# Altium schematic symbol library yu0316-NSC_LDO.SchLib: 2590 symbols (part 58 of 64)
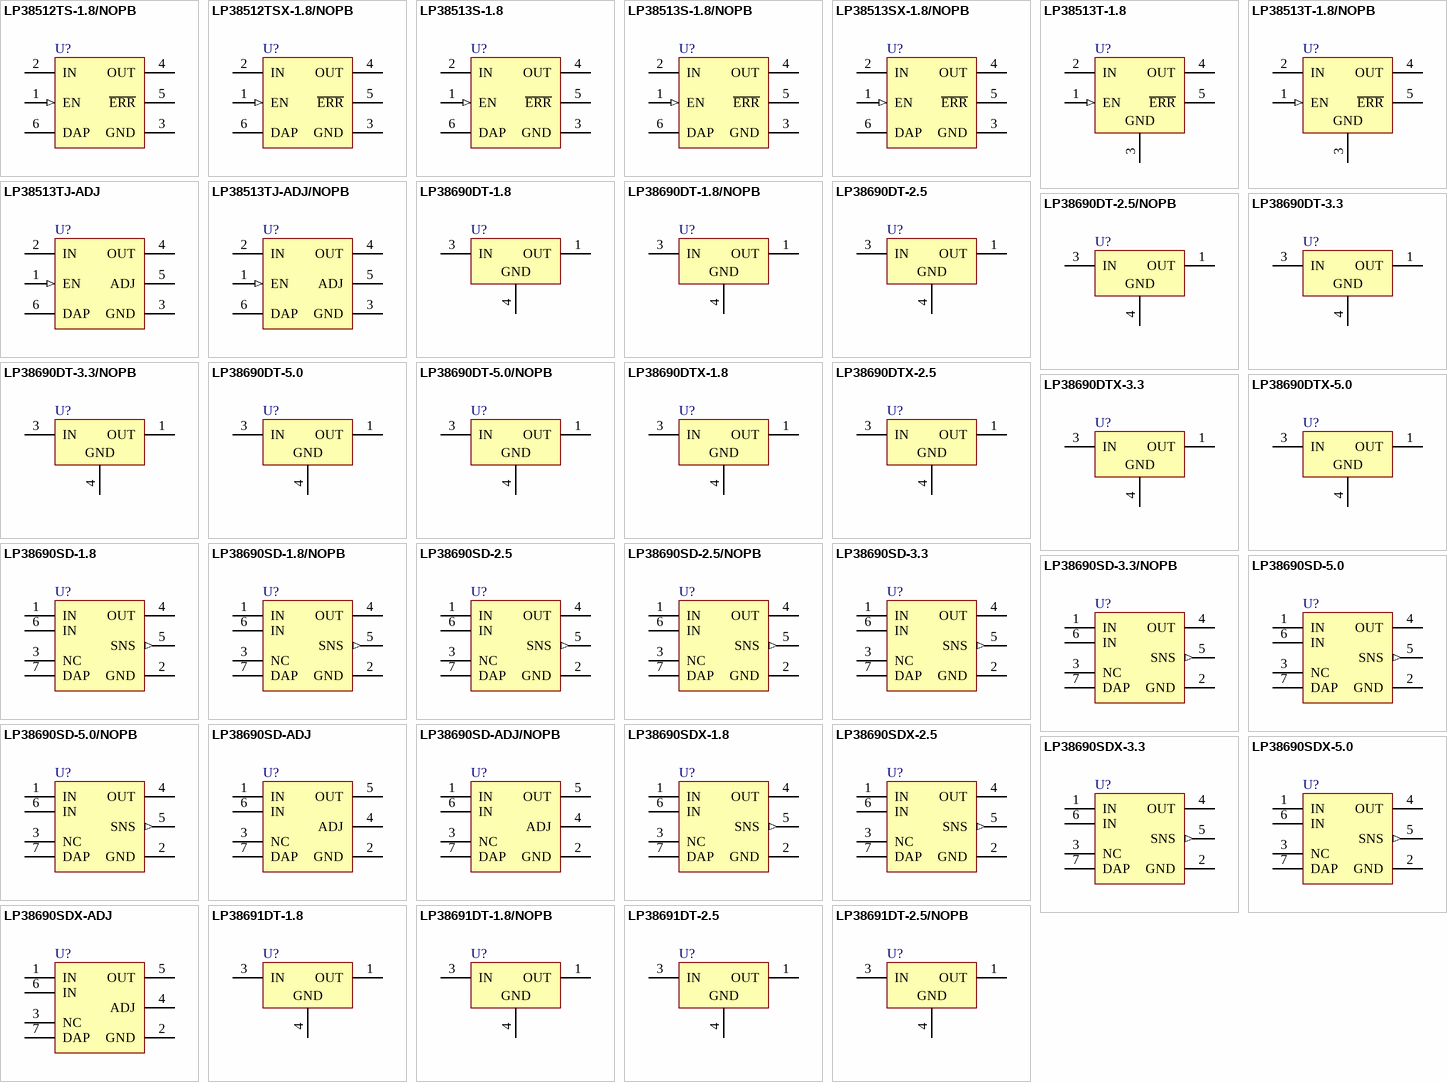
[diagram p122: symbols LP38512TS-1.8/NOPB to LP38691DT-2.5/NOPB]

## LP38513S-1.8
designator U?
3A Fast Response Ultra Low Dropout Linear Regulator, 5-pin TO-263; PartNumber: LP38513S-1.8; Manufacturer: National Semiconductor; PackageTopMarking: NSUZXYTTE#*LP38513S*-1.8; PowerWise: N; CompType: LDO IC; Published: 4-Dec-2008; DatasheetVersion: Jul-2007; PackageVersion: revD, Apr-2005; PackageReference: TS5B; Publisher: Altium Limited; PackageDescription: TO-263, Molded, .400 x .390 x .180in, 5 Lead, .067in Pitch, Surface Mount; Supplier 1: Farnell; Supplier Part Number 1: 1495064; RoHS: Y; PinCount: 5; Code_JEDEC: MO-169-AB; ComponentLink1Description: LP38513 Datasheet; ComponentLink1URL: http://www.national.com/ds/LP/LP38513.pdf; ComponentLink2Description: LP38513 Web Page; ComponentLink2URL: http://www.national.com/pf/LP/LP38513.html; ComponentLink3Description: TS5B Package Page; ComponentLink3URL: http://www.national.com/packaging/folders/ts5b.html
footprint TS5B_N (D2-PAK, 6-Leads, Body 8.6x10.2mm, Pitch 1.7mm, Lead Span 14.1mm, IPC Medium Density)
footprint TS5B_L (D2-PAK, 6-Leads, Body 8.6x10.2mm, Pitch 1.7mm, Lead Span 14.1mm, IPC High Density)
footprint TS5B_M (D2-PAK, 6-Leads, Body 8.6x10.2mm, Pitch 1.7mm, Lead Span 14.1mm, IPC Low Density)
pins: 1 EN (in), 2 IN (power), 3 GND (power), 4 OUT (power), 5 ~{ERR} (oc), 6 DAP (power)

## LP38513S-1.8/NOPB
designator U?
3A Fast Response Ultra Low Dropout Linear Regulator, 5-pin TO-263, Pb-Free; PartNumber: LP38513S-1.8/NOPB; Manufacturer: National Semiconductor; PackageTopMarking: NSUZXYTTE#*LP38513S*-1.8; PowerWise: N; CompType: LDO IC; Published: 1-Mar-2010; DatasheetVersion: Jul-2007; PackageVersion: revD, Apr-2005; PackageReference: TS5B; Publisher: Altium Limited; PackageDescription: TO-263, Molded, .400 x .390 x .180in, 5 Lead, .067in Pitch, Surface Mount; Supplier 1: Digi-Key; Supplier Part Number 1: LP38513S-1.8-ND; RoHS: Y; PinCount: 5; Code_JEDEC: MO-169-AB; ComponentLink1Description: LP38513 Datasheet; ComponentLink1URL: http://www.national.com/ds/LP/LP38513.pdf; ComponentLink2Description: LP38513 Web Page; ComponentLink2URL: http://www.national.com/pf/LP/LP38513.html; ComponentLink3Description: TS5B Package Page; ComponentLink3URL: http://www.national.com/packaging/folders/ts5b.html
footprint TS5B_N (D2-PAK, 6-Leads, Body 8.6x10.2mm, Pitch 1.7mm, Lead Span 14.1mm, IPC Medium Density)
footprint TS5B_L (D2-PAK, 6-Leads, Body 8.6x10.2mm, Pitch 1.7mm, Lead Span 14.1mm, IPC High Density)
footprint TS5B_M (D2-PAK, 6-Leads, Body 8.6x10.2mm, Pitch 1.7mm, Lead Span 14.1mm, IPC Low Density)
pins: 1 EN (in), 2 IN (power), 3 GND (power), 4 OUT (power), 5 ~{ERR} (oc), 6 DAP (power)

## LP38513SX-1.8/NOPB
designator U?
3A Fast Response Ultra Low Dropout Linear Regulator, 5-pin TO-263, Pb-Free; PartNumber: LP38513SX-1.8/NOPB; Manufacturer: National Semiconductor; PackageTopMarking: NSUZXYTTE#*LP38513S*-1.8; PowerWise: N; CompType: LDO IC; Published: 1-Mar-2010; DatasheetVersion: Jul-2007; PackageVersion: revD, Apr-2005; PackageReference: TS5B; Publisher: Altium Limited; PackageDescription: TO-263, Molded, .400 x .390 x .180in, 5 Lead, .067in Pitch, Surface Mount; Supplier 1: Digi-Key; Supplier Part Number 1: LP38513SX-1.8-ND; RoHS: Y; PinCount: 5; Code_JEDEC: MO-169-AB; ComponentLink1Description: LP38513 Datasheet; ComponentLink1URL: http://www.national.com/ds/LP/LP38513.pdf; ComponentLink2Description: LP38513 Web Page; ComponentLink2URL: http://www.national.com/pf/LP/LP38513.html; ComponentLink3Description: TS5B Package Page; ComponentLink3URL: http://www.national.com/packaging/folders/ts5b.html
footprint TS5B_N (D2-PAK, 6-Leads, Body 8.6x10.2mm, Pitch 1.7mm, Lead Span 14.1mm, IPC Medium Density)
footprint TS5B_L (D2-PAK, 6-Leads, Body 8.6x10.2mm, Pitch 1.7mm, Lead Span 14.1mm, IPC High Density)
footprint TS5B_M (D2-PAK, 6-Leads, Body 8.6x10.2mm, Pitch 1.7mm, Lead Span 14.1mm, IPC Low Density)
pins: 1 EN (in), 2 IN (power), 3 GND (power), 4 OUT (power), 5 ~{ERR} (oc), 6 DAP (power)

## LP38513T-1.8
designator U?
3A Fast Response Ultra Low Dropout Linear Regulator, 6-pin TO-220; PartNumber: LP38513T-1.8; Manufacturer: National Semiconductor; PackageTopMarking: NSUZXYTTE#*LP38513T*-1.8; PowerWise: N; CompType: LDO IC; Published: 4-Dec-2008; DatasheetVersion: Jul-2007; PackageVersion: revA, Oct-1989; PackageReference: T05D; Publisher: Altium Limited; PackageDescription: TO-220, Molded, Stagger Bend, 5 Lead; RoHS: Y; PinCount: 5; ComponentLink1Description: LP38513 Datasheet; ComponentLink1URL: http://www.national.com/ds/LP/LP38513.pdf; ComponentLink2Description: LP38513 Web Page; ComponentLink2URL: http://www.national.com/pf/LP/LP38513.html; ComponentLink3Description: T05D Package Page; ComponentLink3URL: http://www.national.com/packaging/folders/t05d.html
footprint T05D (TO, Thru-Hole, Vertical, Heatsink Mounted; 5 Bent Staggered Leads; Body 10.3x8.6x4.6mm, Pitch 1.7 mm)
pins: 1 EN (in), 2 IN (power), 3 GND (power), 4 OUT (power), 5 ~{ERR} (oc)

## LP38513T-1.8/NOPB
designator U?
3A Fast Response Ultra Low Dropout Linear Regulator, 5-pin TO-220, Pb-Free; PartNumber: LP38513T-1.8/NOPB; Manufacturer: National Semiconductor; PackageTopMarking: NSUZXYTTE#*LP38513T*-1.8; PowerWise: N; CompType: LDO IC; Published: 1-Mar-2010; DatasheetVersion: Jul-2007; PackageVersion: revA, Oct-1989; PackageReference: T05D; Publisher: Altium Limited; PackageDescription: TO-220, Molded, Stagger Bend, 5 Lead; Supplier 1: Digi-Key; Supplier Part Number 1: LP38513T-1.8-ND; RoHS: Y; PinCount: 5; ComponentLink1Description: LP38513 Datasheet; ComponentLink1URL: http://www.national.com/ds/LP/LP38513.pdf; ComponentLink2Description: LP38513 Web Page; ComponentLink2URL: http://www.national.com/pf/LP/LP38513.html; ComponentLink3Description: T05D Package Page; ComponentLink3URL: http://www.national.com/packaging/folders/t05d.html
footprint T05D (TO, Thru-Hole, Vertical, Heatsink Mounted; 5 Bent Staggered Leads; Body 10.3x8.6x4.6mm, Pitch 1.7 mm)
pins: 1 EN (in), 2 IN (power), 3 GND (power), 4 OUT (power), 5 ~{ERR} (oc)

## LP38513TJ-ADJ
designator U?
3A Fast Response Ultra Low Dropout Linear Regulator, 6-pin TO-263 Thin; PartNumber: LP38513TJ-ADJ; Manufacturer: National Semiconductor; PackageTopMarking: NSUZXYTTE#*LP38513*TJ-ADJ; PowerWise: N; CompType: LDO IC; Published: 29-May-2009; DatasheetVersion: Feb-2009; PackageVersion: revE, Jan-2008; PackageReference: TJ5A; Publisher: Altium Limited; PackageDescription: Thin TO-263, Molded, 9.85 x 10.16 x 2mm Body, 5 Lead, 1.7mm Pitch, Surface Mount; RoHS: Y; PinCount: 5; ComponentLink1Description: LP38513 Datasheet; ComponentLink1URL: http://www.national.com/ds/LP/LP38513-ADJ.pdf; ComponentLink2Description: LP38513 Web Page; ComponentLink2URL: http://www.national.com/pf/LP/LP38513.html; ComponentLink3Description: TJ5A Package Page; ComponentLink3URL: http://www.national.com/packaging/folders/tj5a.html
footprint TJ5A_N (D2-PAK, 6-Leads, Body 9.9x10.2mm, Pitch 1.7mm, Lead Span 14mm, IPC Medium Density)
footprint TJ5A_L (D2-PAK, 6-Leads, Body 9.9x10.2mm, Pitch 1.7mm, Lead Span 14mm, IPC High Density)
footprint TJ5A_M (D2-PAK, 6-Leads, Body 9.9x10.2mm, Pitch 1.7mm, Lead Span 14mm, IPC Low Density)
pins: 1 EN (in), 2 IN (power), 3 GND (power), 4 OUT (power), 5 ADJ, 6 DAP

## LP38513TJ-ADJ/NOPB
designator U?
3A Fast-Transient Response Adjustable Low-Dropout Linear Voltage Regulator, 5-pin TO-263 Thin, Pb-Free; PartNumber: LP38513TJ-ADJ/NOPB; Manufacturer: National Semiconductor; PackageTopMarking: NSUZXYTTE#*LP38513*TJ-ADJ; PowerWise: N; CompType: LDO IC; Published: 1-Mar-2010; DatasheetVersion: Feb-2009; PackageVersion: revE, Jan-2008; PackageReference: TJ5A; Publisher: Altium Limited; PackageDescription: Thin TO-263, Molded, 9.85 x 10.16 x 2mm Body, 5 Lead, 1.7mm Pitch, Surface Mount; Supplier 1: Digi-Key; Supplier Part Number 1: LP38513TJ-ADJTR-ND; Supplier 2: Digi-Key; Supplier Part Number 2: LP38513TJ-ADJCT-ND; Supplier 3: Digi-Key; Supplier Part Number 3: LP38513TJ-ADJDKR-ND; RoHS: Y; PinCount: 5; ComponentLink1Description: LP38513 Datasheet; ComponentLink1URL: http://www.national.com/ds/LP/LP38513-ADJ.pdf; ComponentLink2Description: LP38513 Web Page; ComponentLink2URL: http://www.national.com/pf/LP/LP38513.html; ComponentLink3Description: TJ5A Package Page; ComponentLink3URL: http://www.national.com/packaging/folders/tj5a.html
footprint TJ5A_N (D2-PAK, 6-Leads, Body 9.9x10.2mm, Pitch 1.7mm, Lead Span 14mm, IPC Medium Density)
footprint TJ5A_L (D2-PAK, 6-Leads, Body 9.9x10.2mm, Pitch 1.7mm, Lead Span 14mm, IPC High Density)
footprint TJ5A_M (D2-PAK, 6-Leads, Body 9.9x10.2mm, Pitch 1.7mm, Lead Span 14mm, IPC Low Density)
pins: 1 EN (in), 2 IN (power), 3 GND (power), 4 OUT (power), 5 ADJ, 6 DAP

## LP38690DT-1.8
designator U?
1A Low Dropout CMOS Linear Regulators, 3-pin TO-252; PartNumber: LP38690DT-1.8; Manufacturer: National Semiconductor; PackageTopMarking: NSUZXYTT*LP38690*DT-1.8; PowerWise: Y; CompType: LDO IC; Published: 4-Dec-2008; DatasheetVersion: May-2005; PackageVersion: revD, Feb-2009; PackageReference: TD03B; Publisher: Altium Limited; PackageDescription: TO252, Molded, Jedec, 6.8 x 6.10 x 2.30mm Body, 3 Lead, 2.28mm Pitch, Surface Mount; Supplier 1: Farnell; Supplier Part Number 1: 1008046; RoHS: N; PinCount: 3; Code_JEDEC: TO-252-AA; ComponentLink1Description: LP38690 Datasheet; ComponentLink1URL: http://www.national.com/ds/LP/LP38690.pdf; ComponentLink2Description: LP38690 Web Page; ComponentLink2URL: http://www.national.com/pf/LP/LP38690.html; ComponentLink3Description: TD03B Package Page; ComponentLink3URL: http://www.national.com/packaging/folders/td03b.html
footprint TD03B_N (D-PAK, 4-Leads, Body 6.1x6.6mm, Pitch 2.29mm, Lead Span 9.7mm, IPC Medium Density)
footprint TD03B_L (D-PAK, 4-Leads, Body 6.1x6.6mm, Pitch 2.29mm, Lead Span 9.7mm, IPC High Density)
footprint TD03B_M (D-PAK, 4-Leads, Body 6.1x6.6mm, Pitch 2.29mm, Lead Span 9.7mm, IPC Low Density)
pins: 1 OUT (power), 3 IN (power), 4 GND (power)

## LP38690DT-1.8/NOPB
designator U?
1A Low Dropout CMOS Linear Regulators Stable with Ceramic Output Capacitors, 3-pin TO-252, Pb-Free; PartNumber: LP38690DT-1.8/NOPB; Manufacturer: National Semiconductor; PackageTopMarking: NSUZXYTT*LP38690*DT-1.8; PowerWise: Y; CompType: LDO IC; Published: 1-Mar-2010; DatasheetVersion: May-2005; PackageVersion: revD, Feb-2009; PackageReference: TD03B; Publisher: Altium Limited; PackageDescription: TO252, Molded, Jedec, 6.8 x 6.10 x 2.30mm Body, 3 Lead, 2.28mm Pitch, Surface Mount; Supplier 1: Digi-Key; Supplier Part Number 1: LP38690DT-1.8-ND; Supplier 2: Farnell; Supplier Part Number 2: 1685708; RoHS: Y; PinCount: 3; Code_JEDEC: TO-252-AA; ComponentLink1Description: LP38690 Datasheet; ComponentLink1URL: http://www.national.com/ds/LP/LP38690.pdf; ComponentLink2Description: LP38690 Web Page; ComponentLink2URL: http://www.national.com/pf/LP/LP38690.html; ComponentLink3Description: TD03B Package Page; ComponentLink3URL: http://www.national.com/packaging/folders/td03b.html
footprint TD03B_N (D-PAK, 4-Leads, Body 6.1x6.6mm, Pitch 2.29mm, Lead Span 9.7mm, IPC Medium Density)
footprint TD03B_L (D-PAK, 4-Leads, Body 6.1x6.6mm, Pitch 2.29mm, Lead Span 9.7mm, IPC High Density)
footprint TD03B_M (D-PAK, 4-Leads, Body 6.1x6.6mm, Pitch 2.29mm, Lead Span 9.7mm, IPC Low Density)
pins: 1 OUT (power), 3 IN (power), 4 GND (power)

## LP38690DT-2.5
designator U?
1A Low Dropout CMOS Linear Regulators, 3-pin TO-252; PartNumber: LP38690DT-2.5; Manufacturer: National Semiconductor; PackageTopMarking: NSUZXYTT*LP38690*DT-2.5; PowerWise: Y; CompType: LDO IC; Published: 4-Dec-2008; DatasheetVersion: May-2005; PackageVersion: revD, Feb-2009; PackageReference: TD03B; Publisher: Altium Limited; PackageDescription: TO252, Molded, Jedec, 6.8 x 6.10 x 2.30mm Body, 3 Lead, 2.28mm Pitch, Surface Mount; Supplier 1: Farnell; Supplier Part Number 1: 1008047; RoHS: N; PinCount: 3; Code_JEDEC: TO-252-AA; ComponentLink1Description: LP38690 Datasheet; ComponentLink1URL: http://www.national.com/ds/LP/LP38690.pdf; ComponentLink2Description: LP38690 Web Page; ComponentLink2URL: http://www.national.com/pf/LP/LP38690.html; ComponentLink3Description: TD03B Package Page; ComponentLink3URL: http://www.national.com/packaging/folders/td03b.html
footprint TD03B_N (D-PAK, 4-Leads, Body 6.1x6.6mm, Pitch 2.29mm, Lead Span 9.7mm, IPC Medium Density)
footprint TD03B_L (D-PAK, 4-Leads, Body 6.1x6.6mm, Pitch 2.29mm, Lead Span 9.7mm, IPC High Density)
footprint TD03B_M (D-PAK, 4-Leads, Body 6.1x6.6mm, Pitch 2.29mm, Lead Span 9.7mm, IPC Low Density)
pins: 1 OUT (power), 3 IN (power), 4 GND (power)

## LP38690DT-2.5/NOPB
designator U?
1A Low Dropout CMOS Linear Regulators Stable with Ceramic Output Capacitors, 3-pin TO-252, Pb-Free; PartNumber: LP38690DT-2.5/NOPB; Manufacturer: National Semiconductor; PackageTopMarking: NSUZXYTT*LP38690*DT-2.5; PowerWise: Y; CompType: LDO IC; Published: 1-Mar-2010; DatasheetVersion: May-2005; PackageVersion: revD, Feb-2009; PackageReference: TD03B; Publisher: Altium Limited; PackageDescription: TO252, Molded, Jedec, 6.8 x 6.10 x 2.30mm Body, 3 Lead, 2.28mm Pitch, Surface Mount; Supplier 1: Digi-Key; Supplier Part Number 1: LP38690DT-2.5-ND; Supplier 2: Farnell; Supplier Part Number 2: 1685709; RoHS: Y; PinCount: 3; Code_JEDEC: TO-252-AA; ComponentLink1Description: LP38690 Datasheet; ComponentLink1URL: http://www.national.com/ds/LP/LP38690.pdf; ComponentLink2Description: LP38690 Web Page; ComponentLink2URL: http://www.national.com/pf/LP/LP38690.html; ComponentLink3Description: TD03B Package Page; ComponentLink3URL: http://www.national.com/packaging/folders/td03b.html
footprint TD03B_N (D-PAK, 4-Leads, Body 6.1x6.6mm, Pitch 2.29mm, Lead Span 9.7mm, IPC Medium Density)
footprint TD03B_L (D-PAK, 4-Leads, Body 6.1x6.6mm, Pitch 2.29mm, Lead Span 9.7mm, IPC High Density)
footprint TD03B_M (D-PAK, 4-Leads, Body 6.1x6.6mm, Pitch 2.29mm, Lead Span 9.7mm, IPC Low Density)
pins: 1 OUT (power), 3 IN (power), 4 GND (power)

## LP38690DT-3.3
designator U?
1A Low Dropout CMOS Linear Regulators, 3-pin TO-252; PartNumber: LP38690DT-3.3; Manufacturer: National Semiconductor; PackageTopMarking: NSUZXYTT*LP38690*DT-3.3; PowerWise: Y; CompType: LDO IC; Published: 4-Dec-2008; DatasheetVersion: May-2005; PackageVersion: revD, Feb-2009; PackageReference: TD03B; Publisher: Altium Limited; PackageDescription: TO252, Molded, Jedec, 6.8 x 6.10 x 2.30mm Body, 3 Lead, 2.28mm Pitch, Surface Mount; Supplier 1: Farnell; Supplier Part Number 1: 1008048; RoHS: N; PinCount: 3; Code_JEDEC: TO-252-AA; ComponentLink1Description: LP38690 Datasheet; ComponentLink1URL: http://www.national.com/ds/LP/LP38690.pdf; ComponentLink2Description: LP38690 Web Page; ComponentLink2URL: http://www.national.com/pf/LP/LP38690.html; ComponentLink3Description: TD03B Package Page; ComponentLink3URL: http://www.national.com/packaging/folders/td03b.html
footprint TD03B_N (D-PAK, 4-Leads, Body 6.1x6.6mm, Pitch 2.29mm, Lead Span 9.7mm, IPC Medium Density)
footprint TD03B_L (D-PAK, 4-Leads, Body 6.1x6.6mm, Pitch 2.29mm, Lead Span 9.7mm, IPC High Density)
footprint TD03B_M (D-PAK, 4-Leads, Body 6.1x6.6mm, Pitch 2.29mm, Lead Span 9.7mm, IPC Low Density)
pins: 1 OUT (power), 3 IN (power), 4 GND (power)

## LP38690DT-3.3/NOPB
designator U?
1A Low Dropout CMOS Linear Regulators Stable with Ceramic Output Capacitors, 3-pin TO-252, Pb-Free; PartNumber: LP38690DT-3.3/NOPB; Manufacturer: National Semiconductor; PackageTopMarking: NSUZXYTT*LP38690*DT-3.3; PowerWise: Y; CompType: LDO IC; Published: 1-Mar-2010; DatasheetVersion: May-2005; PackageVersion: revD, Feb-2009; PackageReference: TD03B; Publisher: Altium Limited; PackageDescription: TO252, Molded, Jedec, 6.8 x 6.10 x 2.30mm Body, 3 Lead, 2.28mm Pitch, Surface Mount; Supplier 1: Digi-Key; Supplier Part Number 1: LP38690DT-3.3-ND; Supplier 2: Farnell; Supplier Part Number 2: 1559626; RoHS: Y; PinCount: 3; Code_JEDEC: TO-252-AA; ComponentLink1Description: LP38690 Datasheet; ComponentLink1URL: http://www.national.com/ds/LP/LP38690.pdf; ComponentLink2Description: LP38690 Web Page; ComponentLink2URL: http://www.national.com/pf/LP/LP38690.html; ComponentLink3Description: TD03B Package Page; ComponentLink3URL: http://www.national.com/packaging/folders/td03b.html
footprint TD03B_N (D-PAK, 4-Leads, Body 6.1x6.6mm, Pitch 2.29mm, Lead Span 9.7mm, IPC Medium Density)
footprint TD03B_L (D-PAK, 4-Leads, Body 6.1x6.6mm, Pitch 2.29mm, Lead Span 9.7mm, IPC High Density)
footprint TD03B_M (D-PAK, 4-Leads, Body 6.1x6.6mm, Pitch 2.29mm, Lead Span 9.7mm, IPC Low Density)
pins: 1 OUT (power), 3 IN (power), 4 GND (power)

## LP38690DT-5.0
designator U?
1A Low Dropout CMOS Linear Regulators, 3-pin TO-252; PartNumber: LP38690DT-5.0; Manufacturer: National Semiconductor; PackageTopMarking: NSUZXYTT*LP38690*DT-5.0; PowerWise: Y; CompType: LDO IC; Published: 4-Dec-2008; DatasheetVersion: May-2005; PackageVersion: revD, Feb-2009; PackageReference: TD03B; Publisher: Altium Limited; PackageDescription: TO252, Molded, Jedec, 6.8 x 6.10 x 2.30mm Body, 3 Lead, 2.28mm Pitch, Surface Mount; Supplier 1: Farnell; Supplier Part Number 1: 1008049; RoHS: N; PinCount: 3; Code_JEDEC: TO-252-AA; ComponentLink1Description: LP38690 Datasheet; ComponentLink1URL: http://www.national.com/ds/LP/LP38690.pdf; ComponentLink2Description: LP38690 Web Page; ComponentLink2URL: http://www.national.com/pf/LP/LP38690.html; ComponentLink3Description: TD03B Package Page; ComponentLink3URL: http://www.national.com/packaging/folders/td03b.html
footprint TD03B_N (D-PAK, 4-Leads, Body 6.1x6.6mm, Pitch 2.29mm, Lead Span 9.7mm, IPC Medium Density)
footprint TD03B_L (D-PAK, 4-Leads, Body 6.1x6.6mm, Pitch 2.29mm, Lead Span 9.7mm, IPC High Density)
footprint TD03B_M (D-PAK, 4-Leads, Body 6.1x6.6mm, Pitch 2.29mm, Lead Span 9.7mm, IPC Low Density)
pins: 1 OUT (power), 3 IN (power), 4 GND (power)

## LP38690DT-5.0/NOPB
designator U?
1A Low Dropout CMOS Linear Regulators Stable with Ceramic Output Capacitors, 3-pin TO-252, Pb-Free; PartNumber: LP38690DT-5.0/NOPB; Manufacturer: National Semiconductor; PackageTopMarking: NSUZXYTT*LP38690*DT-5.0; PowerWise: Y; CompType: LDO IC; Published: 1-Mar-2010; DatasheetVersion: May-2005; PackageVersion: revD, Feb-2009; PackageReference: TD03B; Publisher: Altium Limited; PackageDescription: TO252, Molded, Jedec, 6.8 x 6.10 x 2.30mm Body, 3 Lead, 2.28mm Pitch, Surface Mount; Supplier 1: Digi-Key; Supplier Part Number 1: LP38690DT-5.0-ND; Supplier 2: Farnell; Supplier Part Number 2: 1559627; RoHS: Y; PinCount: 3; Code_JEDEC: TO-252-AA; ComponentLink1Description: LP38690 Datasheet; ComponentLink1URL: http://www.national.com/ds/LP/LP38690.pdf; ComponentLink2Description: LP38690 Web Page; ComponentLink2URL: http://www.national.com/pf/LP/LP38690.html; ComponentLink3Description: TD03B Package Page; ComponentLink3URL: http://www.national.com/packaging/folders/td03b.html
footprint TD03B_N (D-PAK, 4-Leads, Body 6.1x6.6mm, Pitch 2.29mm, Lead Span 9.7mm, IPC Medium Density)
footprint TD03B_L (D-PAK, 4-Leads, Body 6.1x6.6mm, Pitch 2.29mm, Lead Span 9.7mm, IPC High Density)
footprint TD03B_M (D-PAK, 4-Leads, Body 6.1x6.6mm, Pitch 2.29mm, Lead Span 9.7mm, IPC Low Density)
pins: 1 OUT (power), 3 IN (power), 4 GND (power)

## LP38690DTX-1.8
designator U?
1A Low Dropout CMOS Linear Regulators Stable with Ceramic Output Capacitors, 3-pin TO-252; PartNumber: LP38690DTX-1.8; Manufacturer: National Semiconductor; PackageTopMarking: NSUZXYTT*LP38690*DT-1.8; PowerWise: Y; CompType: LDO IC; Published: 1-Mar-2010; DatasheetVersion: May-2005; PackageVersion: revD, Feb-2009; PackageReference: TD03B; Publisher: Altium Limited; PackageDescription: TO252, Molded, Jedec, 6.8 x 6.10 x 2.30mm Body, 3 Lead, 2.28mm Pitch, Surface Mount; RoHS: N; PinCount: 3; Code_JEDEC: TO-252-AA; ComponentLink1Description: LP38690 Datasheet; ComponentLink1URL: http://www.national.com/ds/LP/LP38690.pdf; ComponentLink2Description: LP38690 Web Page; ComponentLink2URL: http://www.national.com/pf/LP/LP38690.html; ComponentLink3Description: TD03B Package Page; ComponentLink3URL: http://www.national.com/packaging/folders/td03b.html
footprint TD03B_N (D-PAK, 4-Leads, Body 6.1x6.6mm, Pitch 2.29mm, Lead Span 9.7mm, IPC Medium Density)
footprint TD03B_L (D-PAK, 4-Leads, Body 6.1x6.6mm, Pitch 2.29mm, Lead Span 9.7mm, IPC High Density)
footprint TD03B_M (D-PAK, 4-Leads, Body 6.1x6.6mm, Pitch 2.29mm, Lead Span 9.7mm, IPC Low Density)
pins: 1 OUT (power), 3 IN (power), 4 GND (power)

## LP38690DTX-2.5
designator U?
1A Low Dropout CMOS Linear Regulators Stable with Ceramic Output Capacitors, 3-pin TO-252; PartNumber: LP38690DTX-2.5; Manufacturer: National Semiconductor; PackageTopMarking: NSUZXYTT*LP38690*DT-2.5; PowerWise: Y; CompType: LDO IC; Published: 1-Mar-2010; DatasheetVersion: May-2005; PackageVersion: revD, Feb-2009; PackageReference: TD03B; Publisher: Altium Limited; PackageDescription: TO252, Molded, Jedec, 6.8 x 6.10 x 2.30mm Body, 3 Lead, 2.28mm Pitch, Surface Mount; RoHS: N; PinCount: 3; Code_JEDEC: TO-252-AA; ComponentLink1Description: LP38690 Datasheet; ComponentLink1URL: http://www.national.com/ds/LP/LP38690.pdf; ComponentLink2Description: LP38690 Web Page; ComponentLink2URL: http://www.national.com/pf/LP/LP38690.html; ComponentLink3Description: TD03B Package Page; ComponentLink3URL: http://www.national.com/packaging/folders/td03b.html
footprint TD03B_N (D-PAK, 4-Leads, Body 6.1x6.6mm, Pitch 2.29mm, Lead Span 9.7mm, IPC Medium Density)
footprint TD03B_L (D-PAK, 4-Leads, Body 6.1x6.6mm, Pitch 2.29mm, Lead Span 9.7mm, IPC High Density)
footprint TD03B_M (D-PAK, 4-Leads, Body 6.1x6.6mm, Pitch 2.29mm, Lead Span 9.7mm, IPC Low Density)
pins: 1 OUT (power), 3 IN (power), 4 GND (power)

## LP38690DTX-3.3
designator U?
1A Low Dropout CMOS Linear Regulators Stable with Ceramic Output Capacitors, 3-pin TO-252; PartNumber: LP38690DTX-3.3; Manufacturer: National Semiconductor; PackageTopMarking: NSUZXYTT*LP38690*DT-3.3; PowerWise: Y; CompType: LDO IC; Published: 1-Mar-2010; DatasheetVersion: May-2005; PackageVersion: revD, Feb-2009; PackageReference: TD03B; Publisher: Altium Limited; PackageDescription: TO252, Molded, Jedec, 6.8 x 6.10 x 2.30mm Body, 3 Lead, 2.28mm Pitch, Surface Mount; RoHS: N; PinCount: 3; Code_JEDEC: TO-252-AA; ComponentLink1Description: LP38690 Datasheet; ComponentLink1URL: http://www.national.com/ds/LP/LP38690.pdf; ComponentLink2Description: LP38690 Web Page; ComponentLink2URL: http://www.national.com/pf/LP/LP38690.html; ComponentLink3Description: TD03B Package Page; ComponentLink3URL: http://www.national.com/packaging/folders/td03b.html
footprint TD03B_N (D-PAK, 4-Leads, Body 6.1x6.6mm, Pitch 2.29mm, Lead Span 9.7mm, IPC Medium Density)
footprint TD03B_L (D-PAK, 4-Leads, Body 6.1x6.6mm, Pitch 2.29mm, Lead Span 9.7mm, IPC High Density)
footprint TD03B_M (D-PAK, 4-Leads, Body 6.1x6.6mm, Pitch 2.29mm, Lead Span 9.7mm, IPC Low Density)
pins: 1 OUT (power), 3 IN (power), 4 GND (power)

## LP38690DTX-5.0
designator U?
1A Low Dropout CMOS Linear Regulators Stable with Ceramic Output Capacitors, 3-pin TO-252; PartNumber: LP38690DTX-5.0; Manufacturer: National Semiconductor; PackageTopMarking: NSUZXYTT*LP38690*DT-5.0; PowerWise: Y; CompType: LDO IC; Published: 1-Mar-2010; DatasheetVersion: May-2005; PackageVersion: revD, Feb-2009; PackageReference: TD03B; Publisher: Altium Limited; PackageDescription: TO252, Molded, Jedec, 6.8 x 6.10 x 2.30mm Body, 3 Lead, 2.28mm Pitch, Surface Mount; RoHS: N; PinCount: 3; Code_JEDEC: TO-252-AA; ComponentLink1Description: LP38690 Datasheet; ComponentLink1URL: http://www.national.com/ds/LP/LP38690.pdf; ComponentLink2Description: LP38690 Web Page; ComponentLink2URL: http://www.national.com/pf/LP/LP38690.html; ComponentLink3Description: TD03B Package Page; ComponentLink3URL: http://www.national.com/packaging/folders/td03b.html
footprint TD03B_N (D-PAK, 4-Leads, Body 6.1x6.6mm, Pitch 2.29mm, Lead Span 9.7mm, IPC Medium Density)
footprint TD03B_L (D-PAK, 4-Leads, Body 6.1x6.6mm, Pitch 2.29mm, Lead Span 9.7mm, IPC High Density)
footprint TD03B_M (D-PAK, 4-Leads, Body 6.1x6.6mm, Pitch 2.29mm, Lead Span 9.7mm, IPC Low Density)
pins: 1 OUT (power), 3 IN (power), 4 GND (power)

## LP38690SD-1.8
designator U?
1A Low Dropout CMOS Linear Regulators, 6-pin LLP; PartNumber: LP38690SD-1.8; Manufacturer: National Semiconductor; PackageTopMarking: ZXYTT*L113B; PowerWise: Y; CompType: LDO IC; Published: 4-Dec-2008; DatasheetVersion: May-2005; PackageVersion: revA, Jul-2003; PackageReference: SDE06A; Publisher: Altium Limited; PackageDescription: LLP, Plastic, Dual, 3 x 3 x 0.8mm Body, 6 Lead, 0.95mm Pitch, No Pullback; RoHS: N; PinCount: 6; ComponentLink1Description: LP38690 Datasheet; ComponentLink1URL: http://www.national.com/ds/LP/LP38690.pdf; ComponentLink2Description: LP38690 Web Page; ComponentLink2URL: http://www.national.com/pf/LP/LP38690.html; ComponentLink3Description: SDE06A Package Page; ComponentLink3URL: http://www.national.com/packaging/folders/sde06a.html
footprint SDE06A_full (SON, 6-Leads, Body 3x3 mm, Pitch 0.95mm, Full Paste, NSC Recommended)
footprint SDE06A_quad (SON, 6-Leads, Body 3x3 mm, Pitch 0.95mm, Quad Paste, NSC Recommended)
pins: 1 IN (power), 2 GND (power), 3 NC, 4 OUT (power), 5 SNS (out), 6 IN (power), 7 DAP (power)

## LP38690SD-1.8/NOPB
designator U?
1A Low Dropout CMOS Linear Regulators Stable with Ceramic Output Capacitors, 6-pin LLP, Pb-Free; PartNumber: LP38690SD-1.8/NOPB; Manufacturer: National Semiconductor; PackageTopMarking: ZXYTT*L113B; PowerWise: Y; CompType: LDO IC; Published: 1-Mar-2010; DatasheetVersion: May-2005; PackageVersion: revA, Jul-2003; PackageReference: SDE06A; Publisher: Altium Limited; PackageDescription: LLP, Plastic, Dual, 3 x 3 x 0.8mm Body, 6 Lead, 0.95mm Pitch, No Pullback; Supplier 1: Digi-Key; Supplier Part Number 1: LP38690SD-1.8TR-ND; Supplier 2: Digi-Key; Supplier Part Number 2: LP38690SD-1.8CT-ND; Supplier 3: Digi-Key; Supplier Part Number 3: LP38690SD-1.8DKR-ND; RoHS: Y; PinCount: 6; ComponentLink1Description: LP38690 Datasheet; ComponentLink1URL: http://www.national.com/ds/LP/LP38690.pdf; ComponentLink2Description: LP38690 Web Page; ComponentLink2URL: http://www.national.com/pf/LP/LP38690.html; ComponentLink3Description: SDE06A Package Page; ComponentLink3URL: http://www.national.com/packaging/folders/sde06a.html
footprint SDE06A_full (SON, 6-Leads, Body 3x3 mm, Pitch 0.95mm, Full Paste, NSC Recommended)
footprint SDE06A_quad (SON, 6-Leads, Body 3x3 mm, Pitch 0.95mm, Quad Paste, NSC Recommended)
pins: 1 IN (power), 2 GND (power), 3 NC, 4 OUT (power), 5 SNS (out), 6 IN (power), 7 DAP (power)

## LP38690SD-2.5
designator U?
1A Low Dropout CMOS Linear Regulators, 6-pin LLP; PartNumber: LP38690SD-2.5; Manufacturer: National Semiconductor; PackageTopMarking: ZXYTT*L114B; PowerWise: Y; CompType: LDO IC; Published: 4-Dec-2008; DatasheetVersion: May-2005; PackageVersion: revA, Jul-2003; PackageReference: SDE06A; Publisher: Altium Limited; PackageDescription: LLP, Plastic, Dual, 3 x 3 x 0.8mm Body, 6 Lead, 0.95mm Pitch, No Pullback; Supplier 1: Digi-Key; Supplier Part Number 1: LP38690SD-2.5TR-ND; Supplier 2: Digi-Key; Supplier Part Number 2: LP38690SD-2.5CT-ND; Supplier 3: Digi-Key; Supplier Part Number 3: LP38690SD-2.5DKR-ND; RoHS: N; PinCount: 6; ComponentLink1Description: LP38690 Datasheet; ComponentLink1URL: http://www.national.com/ds/LP/LP38690.pdf; ComponentLink2Description: LP38690 Web Page; ComponentLink2URL: http://www.national.com/pf/LP/LP38690.html; ComponentLink3Description: SDE06A Package Page; ComponentLink3URL: http://www.national.com/packaging/folders/sde06a.html
footprint SDE06A_full (SON, 6-Leads, Body 3x3 mm, Pitch 0.95mm, Full Paste, NSC Recommended)
footprint SDE06A_quad (SON, 6-Leads, Body 3x3 mm, Pitch 0.95mm, Quad Paste, NSC Recommended)
pins: 1 IN (power), 2 GND (power), 3 NC, 4 OUT (power), 5 SNS (out), 6 IN (power), 7 DAP (power)

## LP38690SD-2.5/NOPB
designator U?
1A Low Dropout CMOS Linear Regulators Stable with Ceramic Output Capacitors, 6-pin LLP, Pb-Free; PartNumber: LP38690SD-2.5/NOPB; Manufacturer: National Semiconductor; PackageTopMarking: ZXYTT*L114B; PowerWise: Y; CompType: LDO IC; Published: 1-Mar-2010; DatasheetVersion: May-2005; PackageVersion: revA, Jul-2003; PackageReference: SDE06A; Publisher: Altium Limited; PackageDescription: LLP, Plastic, Dual, 3 x 3 x 0.8mm Body, 6 Lead, 0.95mm Pitch, No Pullback; Supplier 1: Farnell; Supplier Part Number 1: 1685710; RoHS: Y; PinCount: 6; ComponentLink1Description: LP38690 Datasheet; ComponentLink1URL: http://www.national.com/ds/LP/LP38690.pdf; ComponentLink2Description: LP38690 Web Page; ComponentLink2URL: http://www.national.com/pf/LP/LP38690.html; ComponentLink3Description: SDE06A Package Page; ComponentLink3URL: http://www.national.com/packaging/folders/sde06a.html
footprint SDE06A_full (SON, 6-Leads, Body 3x3 mm, Pitch 0.95mm, Full Paste, NSC Recommended)
footprint SDE06A_quad (SON, 6-Leads, Body 3x3 mm, Pitch 0.95mm, Quad Paste, NSC Recommended)
pins: 1 IN (power), 2 GND (power), 3 NC, 4 OUT (power), 5 SNS (out), 6 IN (power), 7 DAP (power)

## LP38690SD-3.3
designator U?
1A Low Dropout CMOS Linear Regulators, 6-pin LLP; PartNumber: LP38690SD-3.3; Manufacturer: National Semiconductor; PackageTopMarking: ZXYTT*L115B; PowerWise: Y; CompType: LDO IC; Published: 4-Dec-2008; DatasheetVersion: May-2005; PackageVersion: revA, Jul-2003; PackageReference: SDE06A; Publisher: Altium Limited; PackageDescription: LLP, Plastic, Dual, 3 x 3 x 0.8mm Body, 6 Lead, 0.95mm Pitch, No Pullback; RoHS: N; PinCount: 6; ComponentLink1Description: LP38690 Datasheet; ComponentLink1URL: http://www.national.com/ds/LP/LP38690.pdf; ComponentLink2Description: LP38690 Web Page; ComponentLink2URL: http://www.national.com/pf/LP/LP38690.html; ComponentLink3Description: SDE06A Package Page; ComponentLink3URL: http://www.national.com/packaging/folders/sde06a.html
footprint SDE06A_full (SON, 6-Leads, Body 3x3 mm, Pitch 0.95mm, Full Paste, NSC Recommended)
footprint SDE06A_quad (SON, 6-Leads, Body 3x3 mm, Pitch 0.95mm, Quad Paste, NSC Recommended)
pins: 1 IN (power), 2 GND (power), 3 NC, 4 OUT (power), 5 SNS (out), 6 IN (power), 7 DAP (power)

## LP38690SD-3.3/NOPB
designator U?
1A Low Dropout CMOS Linear Regulators Stable with Ceramic Output Capacitors, 6-pin LLP, Pb-Free; PartNumber: LP38690SD-3.3/NOPB; Manufacturer: National Semiconductor; PackageTopMarking: ZXYTT*L115B; PowerWise: Y; CompType: LDO IC; Published: 1-Mar-2010; DatasheetVersion: May-2005; PackageVersion: revA, Jul-2003; PackageReference: SDE06A; Publisher: Altium Limited; PackageDescription: LLP, Plastic, Dual, 3 x 3 x 0.8mm Body, 6 Lead, 0.95mm Pitch, No Pullback; Supplier 1: Digi-Key; Supplier Part Number 1: LP38690SD-3.3TR-ND; Supplier 2: Digi-Key; Supplier Part Number 2: LP38690SD-3.3CT-ND; Supplier 3: Digi-Key; Supplier Part Number 3: LP38690SD-3.3DKR-ND; Supplier 4: Farnell; Supplier Part Number 4: 1685711; RoHS: Y; PinCount: 6; ComponentLink1Description: LP38690 Datasheet; ComponentLink1URL: http://www.national.com/ds/LP/LP38690.pdf; ComponentLink2Description: LP38690 Web Page; ComponentLink2URL: http://www.national.com/pf/LP/LP38690.html; ComponentLink3Description: SDE06A Package Page; ComponentLink3URL: http://www.national.com/packaging/folders/sde06a.html
footprint SDE06A_full (SON, 6-Leads, Body 3x3 mm, Pitch 0.95mm, Full Paste, NSC Recommended)
footprint SDE06A_quad (SON, 6-Leads, Body 3x3 mm, Pitch 0.95mm, Quad Paste, NSC Recommended)
pins: 1 IN (power), 2 GND (power), 3 NC, 4 OUT (power), 5 SNS (out), 6 IN (power), 7 DAP (power)

## LP38690SD-5.0
designator U?
1A Low Dropout CMOS Linear Regulators, 6-pin LLP; PartNumber: LP38690SD-5.0; Manufacturer: National Semiconductor; PackageTopMarking: ZXYTT*L116B; PowerWise: Y; CompType: LDO IC; Published: 4-Dec-2008; DatasheetVersion: May-2005; PackageVersion: revA, Jul-2003; PackageReference: SDE06A; Publisher: Altium Limited; PackageDescription: LLP, Plastic, Dual, 3 x 3 x 0.8mm Body, 6 Lead, 0.95mm Pitch, No Pullback; RoHS: N; PinCount: 6; ComponentLink1Description: LP38690 Datasheet; ComponentLink1URL: http://www.national.com/ds/LP/LP38690.pdf; ComponentLink2Description: LP38690 Web Page; ComponentLink2URL: http://www.national.com/pf/LP/LP38690.html; ComponentLink3Description: SDE06A Package Page; ComponentLink3URL: http://www.national.com/packaging/folders/sde06a.html
footprint SDE06A_full (SON, 6-Leads, Body 3x3 mm, Pitch 0.95mm, Full Paste, NSC Recommended)
footprint SDE06A_quad (SON, 6-Leads, Body 3x3 mm, Pitch 0.95mm, Quad Paste, NSC Recommended)
pins: 1 IN (power), 2 GND (power), 3 NC, 4 OUT (power), 5 SNS (out), 6 IN (power), 7 DAP (power)

## LP38690SD-5.0/NOPB
designator U?
1A Low Dropout CMOS Linear Regulators Stable with Ceramic Output Capacitors, 6-pin LLP, Pb-Free; PartNumber: LP38690SD-5.0/NOPB; Manufacturer: National Semiconductor; PackageTopMarking: ZXYTT*L116B; PowerWise: Y; CompType: LDO IC; Published: 1-Mar-2010; DatasheetVersion: May-2005; PackageVersion: revA, Jul-2003; PackageReference: SDE06A; Publisher: Altium Limited; PackageDescription: LLP, Plastic, Dual, 3 x 3 x 0.8mm Body, 6 Lead, 0.95mm Pitch, No Pullback; Supplier 1: Digi-Key; Supplier Part Number 1: LP38690SD-5.0TR-ND; Supplier 2: Digi-Key; Supplier Part Number 2: LP38690SD-5.0CT-ND; Supplier 3: Digi-Key; Supplier Part Number 3: LP38690SD-5.0DKR-ND; Supplier 4: Farnell; Supplier Part Number 4: 1685712; RoHS: Y; PinCount: 6; ComponentLink1Description: LP38690 Datasheet; ComponentLink1URL: http://www.national.com/ds/LP/LP38690.pdf; ComponentLink2Description: LP38690 Web Page; ComponentLink2URL: http://www.national.com/pf/LP/LP38690.html; ComponentLink3Description: SDE06A Package Page; ComponentLink3URL: http://www.national.com/packaging/folders/sde06a.html
footprint SDE06A_full (SON, 6-Leads, Body 3x3 mm, Pitch 0.95mm, Full Paste, NSC Recommended)
footprint SDE06A_quad (SON, 6-Leads, Body 3x3 mm, Pitch 0.95mm, Quad Paste, NSC Recommended)
pins: 1 IN (power), 2 GND (power), 3 NC, 4 OUT (power), 5 SNS (out), 6 IN (power), 7 DAP (power)

## LP38690SD-ADJ
designator U?
1A Low Dropout CMOS Linear Regulators, 6-pin LLP; PartNumber: LP38690SD-ADJ; Manufacturer: National Semiconductor; PackageTopMarking: ZXYTT*L112B; PowerWise: Y; CompType: LDO IC; Published: 4-Dec-2008; DatasheetVersion: Jan-2005; PackageVersion: revA, Jul-2003; PackageReference: SDE06A; Publisher: Altium Limited; PackageDescription: LLP, Plastic, Dual, 3 x 3 x 0.8mm Body, 6 Lead, 0.95mm Pitch, No Pullback; Supplier 1: Farnell; Supplier Part Number 1: 1312619; RoHS: N; PinCount: 6; ComponentLink1Description: LP38690 Datasheet; ComponentLink1URL: http://www.national.com/ds/LP/LP38690-ADJ.pdf; ComponentLink2Description: LP38690 Web Page; ComponentLink2URL: http://www.national.com/pf/LP/LP38690.html; ComponentLink3Description: SDE06A Package Page; ComponentLink3URL: http://www.national.com/packaging/folders/sde06a.html
footprint SDE06A_full (SON, 6-Leads, Body 3x3 mm, Pitch 0.95mm, Full Paste, NSC Recommended)
footprint SDE06A_quad (SON, 6-Leads, Body 3x3 mm, Pitch 0.95mm, Quad Paste, NSC Recommended)
pins: 1 IN (power), 2 GND (power), 3 NC, 4 ADJ, 5 OUT (power), 6 IN (power), 7 DAP (power)

## LP38690SD-ADJ/NOPB
designator U?
1A Low Dropout CMOS Linear Regulators with Adjustable Output Stable with Ceramic Output Capacitors, 6-pin LLP, Pb-Free; PartNumber: LP38690SD-ADJ/NOPB; Manufacturer: National Semiconductor; PackageTopMarking: ZXYTT*L112B; PowerWise: Y; CompType: LDO IC; Published: 1-Mar-2010; DatasheetVersion: Jan-2005; PackageVersion: revA, Jul-2003; PackageReference: SDE06A; Publisher: Altium Limited; PackageDescription: LLP, Plastic, Dual, 3 x 3 x 0.8mm Body, 6 Lead, 0.95mm Pitch, No Pullback; Supplier 1: Digi-Key; Supplier Part Number 1: LP38690SD-ADJTR-ND; Supplier 2: Digi-Key; Supplier Part Number 2: LP38690SD-ADJCT-ND; Supplier 3: Digi-Key; Supplier Part Number 3: LP38690SD-ADJDKR-ND; Supplier 4: Farnell; Supplier Part Number 4: 1559628; RoHS: Y; PinCount: 6; ComponentLink1Description: LP38690 Datasheet; ComponentLink1URL: http://www.national.com/ds/LP/LP38690-ADJ.pdf; ComponentLink2Description: LP38690 Web Page; ComponentLink2URL: http://www.national.com/pf/LP/LP38690.html; ComponentLink3Description: SDE06A Package Page; ComponentLink3URL: http://www.national.com/packaging/folders/sde06a.html
footprint SDE06A_full (SON, 6-Leads, Body 3x3 mm, Pitch 0.95mm, Full Paste, NSC Recommended)
footprint SDE06A_quad (SON, 6-Leads, Body 3x3 mm, Pitch 0.95mm, Quad Paste, NSC Recommended)
pins: 1 IN (power), 2 GND (power), 3 NC, 4 ADJ, 5 OUT (power), 6 IN (power), 7 DAP (power)

## LP38690SDX-1.8
designator U?
1A Low Dropout CMOS Linear Regulators Stable with Ceramic Output Capacitors, 6-pin LLP; PartNumber: LP38690SDX-1.8; Manufacturer: National Semiconductor; PackageTopMarking: ZXYTT*L113B; PowerWise: Y; CompType: LDO IC; Published: 1-Mar-2010; DatasheetVersion: May-2005; PackageVersion: revA, Jul-2003; PackageReference: SDE06A; Publisher: Altium Limited; PackageDescription: LLP, Plastic, Dual, 3 x 3 x 0.8mm Body, 6 Lead, 0.95mm Pitch, No Pullback; RoHS: N; PinCount: 6; ComponentLink1Description: LP38690 Datasheet; ComponentLink1URL: http://www.national.com/ds/LP/LP38690.pdf; ComponentLink2Description: LP38690 Web Page; ComponentLink2URL: http://www.national.com/pf/LP/LP38690.html; ComponentLink3Description: SDE06A Package Page; ComponentLink3URL: http://www.national.com/packaging/folders/sde06a.html
footprint SDE06A_full (SON, 6-Leads, Body 3x3 mm, Pitch 0.95mm, Full Paste, NSC Recommended)
footprint SDE06A_quad (SON, 6-Leads, Body 3x3 mm, Pitch 0.95mm, Quad Paste, NSC Recommended)
pins: 1 IN (power), 2 GND (power), 3 NC, 4 OUT (power), 5 SNS (out), 6 IN (power), 7 DAP (power)

## LP38690SDX-2.5
designator U?
1A Low Dropout CMOS Linear Regulators Stable with Ceramic Output Capacitors, 6-pin LLP; PartNumber: LP38690SDX-2.5; Manufacturer: National Semiconductor; PackageTopMarking: ZXYTT*L114B; PowerWise: Y; CompType: LDO IC; Published: 1-Mar-2010; DatasheetVersion: May-2005; PackageVersion: revA, Jul-2003; PackageReference: SDE06A; Publisher: Altium Limited; PackageDescription: LLP, Plastic, Dual, 3 x 3 x 0.8mm Body, 6 Lead, 0.95mm Pitch, No Pullback; RoHS: N; PinCount: 6; ComponentLink1Description: LP38690 Datasheet; ComponentLink1URL: http://www.national.com/ds/LP/LP38690.pdf; ComponentLink2Description: LP38690 Web Page; ComponentLink2URL: http://www.national.com/pf/LP/LP38690.html; ComponentLink3Description: SDE06A Package Page; ComponentLink3URL: http://www.national.com/packaging/folders/sde06a.html
footprint SDE06A_full (SON, 6-Leads, Body 3x3 mm, Pitch 0.95mm, Full Paste, NSC Recommended)
footprint SDE06A_quad (SON, 6-Leads, Body 3x3 mm, Pitch 0.95mm, Quad Paste, NSC Recommended)
pins: 1 IN (power), 2 GND (power), 3 NC, 4 OUT (power), 5 SNS (out), 6 IN (power), 7 DAP (power)

## LP38690SDX-3.3
designator U?
1A Low Dropout CMOS Linear Regulators Stable with Ceramic Output Capacitors, 6-pin LLP; PartNumber: LP38690SDX-3.3; Manufacturer: National Semiconductor; PackageTopMarking: ZXYTT*L115B; PowerWise: Y; CompType: LDO IC; Published: 1-Mar-2010; DatasheetVersion: May-2005; PackageVersion: revA, Jul-2003; PackageReference: SDE06A; Publisher: Altium Limited; PackageDescription: LLP, Plastic, Dual, 3 x 3 x 0.8mm Body, 6 Lead, 0.95mm Pitch, No Pullback; RoHS: N; PinCount: 6; ComponentLink1Description: LP38690 Datasheet; ComponentLink1URL: http://www.national.com/ds/LP/LP38690.pdf; ComponentLink2Description: LP38690 Web Page; ComponentLink2URL: http://www.national.com/pf/LP/LP38690.html; ComponentLink3Description: SDE06A Package Page; ComponentLink3URL: http://www.national.com/packaging/folders/sde06a.html
footprint SDE06A_full (SON, 6-Leads, Body 3x3 mm, Pitch 0.95mm, Full Paste, NSC Recommended)
footprint SDE06A_quad (SON, 6-Leads, Body 3x3 mm, Pitch 0.95mm, Quad Paste, NSC Recommended)
pins: 1 IN (power), 2 GND (power), 3 NC, 4 OUT (power), 5 SNS (out), 6 IN (power), 7 DAP (power)

## LP38690SDX-5.0
designator U?
1A Low Dropout CMOS Linear Regulators Stable with Ceramic Output Capacitors, 6-pin LLP; PartNumber: LP38690SDX-5.0; Manufacturer: National Semiconductor; PackageTopMarking: ZXYTT*L116B; PowerWise: Y; CompType: LDO IC; Published: 1-Mar-2010; DatasheetVersion: May-2005; PackageVersion: revA, Jul-2003; PackageReference: SDE06A; Publisher: Altium Limited; PackageDescription: LLP, Plastic, Dual, 3 x 3 x 0.8mm Body, 6 Lead, 0.95mm Pitch, No Pullback; RoHS: N; PinCount: 6; ComponentLink1Description: LP38690 Datasheet; ComponentLink1URL: http://www.national.com/ds/LP/LP38690.pdf; ComponentLink2Description: LP38690 Web Page; ComponentLink2URL: http://www.national.com/pf/LP/LP38690.html; ComponentLink3Description: SDE06A Package Page; ComponentLink3URL: http://www.national.com/packaging/folders/sde06a.html
footprint SDE06A_full (SON, 6-Leads, Body 3x3 mm, Pitch 0.95mm, Full Paste, NSC Recommended)
footprint SDE06A_quad (SON, 6-Leads, Body 3x3 mm, Pitch 0.95mm, Quad Paste, NSC Recommended)
pins: 1 IN (power), 2 GND (power), 3 NC, 4 OUT (power), 5 SNS (out), 6 IN (power), 7 DAP (power)

## LP38690SDX-ADJ
designator U?
1A Low Dropout CMOS Linear Regulators with Adjustable Output Stable with Ceramic Output Capacitors, 6-pin LLP; PartNumber: LP38690SDX-ADJ; Manufacturer: National Semiconductor; PackageTopMarking: ZXYTT*L112B; PowerWise: Y; CompType: LDO IC; Published: 1-Mar-2010; DatasheetVersion: Jan-2005; PackageVersion: revA, Jul-2003; PackageReference: SDE06A; Publisher: Altium Limited; PackageDescription: LLP, Plastic, Dual, 3 x 3 x 0.8mm Body, 6 Lead, 0.95mm Pitch, No Pullback; RoHS: N; PinCount: 6; ComponentLink1Description: LP38690 Datasheet; ComponentLink1URL: http://www.national.com/ds/LP/LP38690-ADJ.pdf; ComponentLink2Description: LP38690 Web Page; ComponentLink2URL: http://www.national.com/pf/LP/LP38690.html; ComponentLink3Description: SDE06A Package Page; ComponentLink3URL: http://www.national.com/packaging/folders/sde06a.html
footprint SDE06A_full (SON, 6-Leads, Body 3x3 mm, Pitch 0.95mm, Full Paste, NSC Recommended)
footprint SDE06A_quad (SON, 6-Leads, Body 3x3 mm, Pitch 0.95mm, Quad Paste, NSC Recommended)
pins: 1 IN (power), 2 GND (power), 3 NC, 4 ADJ, 5 OUT (power), 6 IN (power), 7 DAP (power)

## LP38691DT-1.8
designator U?
500mA Low Dropout CMOS Linear Regulators, 3-pin TO-252; PartNumber: LP38691DT-1.8; Manufacturer: National Semiconductor; PackageTopMarking: NSUZXYTT*LP38691*DT-1.8; PowerWise: Y; CompType: LDO IC; Published: 4-Dec-2008; DatasheetVersion: Sep-2005; PackageVersion: revD, Feb-2009; PackageReference: TD03B; Publisher: Altium Limited; PackageDescription: TO252, Molded, Jedec, 6.8 x 6.10 x 2.30mm Body, 3 Lead, 2.28mm Pitch, Surface Mount; Supplier 1: Farnell; Supplier Part Number 1: 1008050; RoHS: N; PinCount: 3; Code_JEDEC: TO-252-AA; ComponentLink1Description: LP38691 Datasheet; ComponentLink1URL: http://www.national.com/ds/LP/LP38691.pdf; ComponentLink2Description: LP38691 Web Page; ComponentLink2URL: http://www.national.com/pf/LP/LP38691.html; ComponentLink3Description: TD03B Package Page; ComponentLink3URL: http://www.national.com/packaging/folders/td03b.html
footprint TD03B_N (D-PAK, 4-Leads, Body 6.1x6.6mm, Pitch 2.29mm, Lead Span 9.7mm, IPC Medium Density)
footprint TD03B_L (D-PAK, 4-Leads, Body 6.1x6.6mm, Pitch 2.29mm, Lead Span 9.7mm, IPC High Density)
footprint TD03B_M (D-PAK, 4-Leads, Body 6.1x6.6mm, Pitch 2.29mm, Lead Span 9.7mm, IPC Low Density)
pins: 1 OUT (power), 3 IN (power), 4 GND (power)

## LP38691DT-1.8/NOPB
designator U?
500mA Low Dropout CMOS Linear Regulators Stable with Ceramic Output Capacitors, 3-pin TO-252, Pb-Free; PartNumber: LP38691DT-1.8/NOPB; Manufacturer: National Semiconductor; PackageTopMarking: NSUZXYTT*LP38691*DT-1.8; PowerWise: Y; CompType: LDO IC; Published: 1-Mar-2010; DatasheetVersion: Sep-2005; PackageVersion: revD, Feb-2009; PackageReference: TD03B; Publisher: Altium Limited; PackageDescription: TO252, Molded, Jedec, 6.8 x 6.10 x 2.30mm Body, 3 Lead, 2.28mm Pitch, Surface Mount; Supplier 1: Digi-Key; Supplier Part Number 1: LP38691DT-1.8-ND; Supplier 2: Farnell; Supplier Part Number 2: 1559633; RoHS: Y; PinCount: 3; Code_JEDEC: TO-252-AA; ComponentLink1Description: LP38691 Datasheet; ComponentLink1URL: http://www.national.com/ds/LP/LP38691.pdf; ComponentLink2Description: LP38691 Web Page; ComponentLink2URL: http://www.national.com/pf/LP/LP38691.html; ComponentLink3Description: TD03B Package Page; ComponentLink3URL: http://www.national.com/packaging/folders/td03b.html
footprint TD03B_N (D-PAK, 4-Leads, Body 6.1x6.6mm, Pitch 2.29mm, Lead Span 9.7mm, IPC Medium Density)
footprint TD03B_L (D-PAK, 4-Leads, Body 6.1x6.6mm, Pitch 2.29mm, Lead Span 9.7mm, IPC High Density)
footprint TD03B_M (D-PAK, 4-Leads, Body 6.1x6.6mm, Pitch 2.29mm, Lead Span 9.7mm, IPC Low Density)
pins: 1 OUT (power), 3 IN (power), 4 GND (power)

## LP38691DT-2.5
designator U?
500mA Low Dropout CMOS Linear Regulators, 3-pin TO-252; PartNumber: LP38691DT-2.5; Manufacturer: National Semiconductor; PackageTopMarking: NSUZXYTT*LP38691*DT-2.5; PowerWise: Y; CompType: LDO IC; Published: 4-Dec-2008; DatasheetVersion: Sep-2005; PackageVersion: revD, Feb-2009; PackageReference: TD03B; Publisher: Altium Limited; PackageDescription: TO252, Molded, Jedec, 6.8 x 6.10 x 2.30mm Body, 3 Lead, 2.28mm Pitch, Surface Mount; Supplier 1: Farnell; Supplier Part Number 1: 1008051; RoHS: N; PinCount: 3; Code_JEDEC: TO-252-AA; ComponentLink1Description: LP38691 Datasheet; ComponentLink1URL: http://www.national.com/ds/LP/LP38691.pdf; ComponentLink2Description: LP38691 Web Page; ComponentLink2URL: http://www.national.com/pf/LP/LP38691.html; ComponentLink3Description: TD03B Package Page; ComponentLink3URL: http://www.national.com/packaging/folders/td03b.html
footprint TD03B_N (D-PAK, 4-Leads, Body 6.1x6.6mm, Pitch 2.29mm, Lead Span 9.7mm, IPC Medium Density)
footprint TD03B_L (D-PAK, 4-Leads, Body 6.1x6.6mm, Pitch 2.29mm, Lead Span 9.7mm, IPC High Density)
footprint TD03B_M (D-PAK, 4-Leads, Body 6.1x6.6mm, Pitch 2.29mm, Lead Span 9.7mm, IPC Low Density)
pins: 1 OUT (power), 3 IN (power), 4 GND (power)

## LP38691DT-2.5/NOPB
designator U?
500mA Low Dropout CMOS Linear Regulators Stable with Ceramic Output Capacitors, 3-pin TO-252, Pb-Free; PartNumber: LP38691DT-2.5/NOPB; Manufacturer: National Semiconductor; PackageTopMarking: NSUZXYTT*LP38691*DT-2.5; PowerWise: Y; CompType: LDO IC; Published: 1-Mar-2010; DatasheetVersion: Sep-2005; PackageVersion: revD, Feb-2009; PackageReference: TD03B; Publisher: Altium Limited; PackageDescription: TO252, Molded, Jedec, 6.8 x 6.10 x 2.30mm Body, 3 Lead, 2.28mm Pitch, Surface Mount; Supplier 1: Digi-Key; Supplier Part Number 1: LP38691DT-2.5-ND; RoHS: Y; PinCount: 3; Code_JEDEC: TO-252-AA; ComponentLink1Description: LP38691 Datasheet; ComponentLink1URL: http://www.national.com/ds/LP/LP38691.pdf; ComponentLink2Description: LP38691 Web Page; ComponentLink2URL: http://www.national.com/pf/LP/LP38691.html; ComponentLink3Description: TD03B Package Page; ComponentLink3URL: http://www.national.com/packaging/folders/td03b.html
footprint TD03B_N (D-PAK, 4-Leads, Body 6.1x6.6mm, Pitch 2.29mm, Lead Span 9.7mm, IPC Medium Density)
footprint TD03B_L (D-PAK, 4-Leads, Body 6.1x6.6mm, Pitch 2.29mm, Lead Span 9.7mm, IPC High Density)
footprint TD03B_M (D-PAK, 4-Leads, Body 6.1x6.6mm, Pitch 2.29mm, Lead Span 9.7mm, IPC Low Density)
pins: 1 OUT (power), 3 IN (power), 4 GND (power)

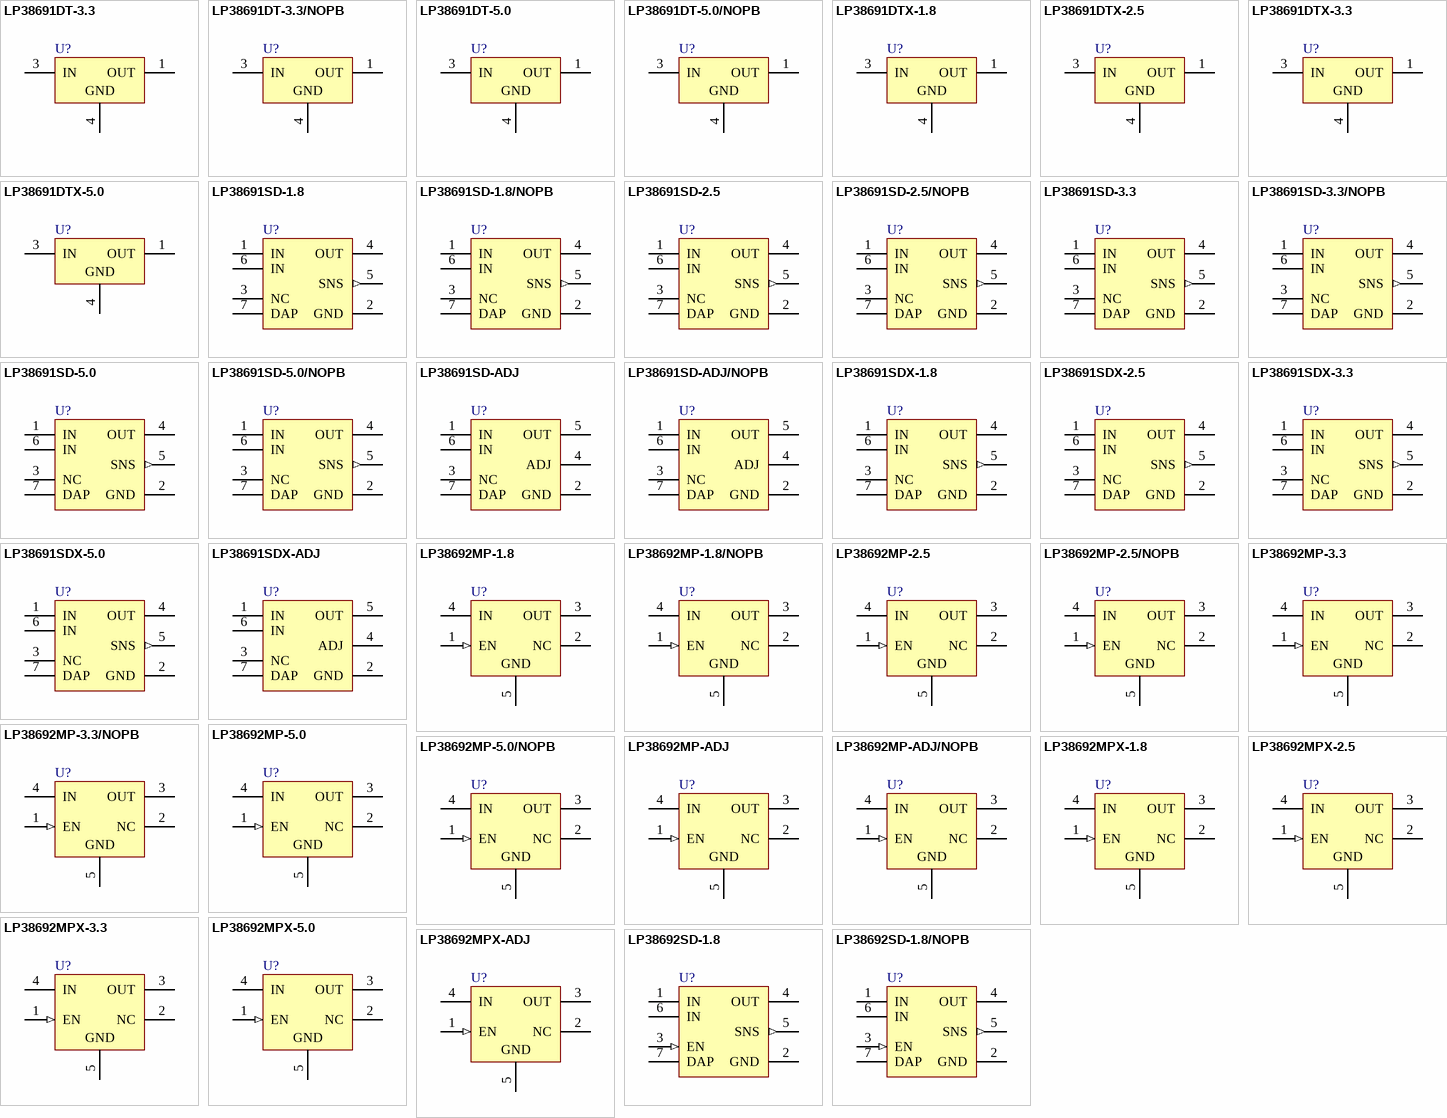
[diagram p60: symbols LP38691DT-3.3 to LP38692SD-1.8/NOPB]

## LP38691DT-3.3
designator U?
500mA Low Dropout CMOS Linear Regulators, 3-pin TO-252; PartNumber: LP38691DT-3.3; Manufacturer: National Semiconductor; PackageTopMarking: NSUZXYTT*LP38691*DT-3.3; PowerWise: Y; CompType: LDO IC; Published: 4-Dec-2008; DatasheetVersion: Sep-2005; PackageVersion: revD, Feb-2009; PackageReference: TD03B; Publisher: Altium Limited; PackageDescription: TO252, Molded, Jedec, 6.8 x 6.10 x 2.30mm Body, 3 Lead, 2.28mm Pitch, Surface Mount; RoHS: N; PinCount: 3; Code_JEDEC: TO-252-AA; ComponentLink1Description: LP38691 Datasheet; ComponentLink1URL: http://www.national.com/ds/LP/LP38691.pdf; ComponentLink2Description: LP38691 Web Page; ComponentLink2URL: http://www.national.com/pf/LP/LP38691.html; ComponentLink3Description: TD03B Package Page; ComponentLink3URL: http://www.national.com/packaging/folders/td03b.html
footprint TD03B_N (D-PAK, 4-Leads, Body 6.1x6.6mm, Pitch 2.29mm, Lead Span 9.7mm, IPC Medium Density)
footprint TD03B_L (D-PAK, 4-Leads, Body 6.1x6.6mm, Pitch 2.29mm, Lead Span 9.7mm, IPC High Density)
footprint TD03B_M (D-PAK, 4-Leads, Body 6.1x6.6mm, Pitch 2.29mm, Lead Span 9.7mm, IPC Low Density)
pins: 1 OUT (power), 3 IN (power), 4 GND (power)

## LP38691DT-3.3/NOPB
designator U?
500mA Low Dropout CMOS Linear Regulators Stable with Ceramic Output Capacitors, 3-pin TO-252, Pb-Free; PartNumber: LP38691DT-3.3/NOPB; Manufacturer: National Semiconductor; PackageTopMarking: NSUZXYTT*LP38691*DT-3.3; PowerWise: Y; CompType: LDO IC; Published: 1-Mar-2010; DatasheetVersion: Sep-2005; PackageVersion: revD, Feb-2009; PackageReference: TD03B; Publisher: Altium Limited; PackageDescription: TO252, Molded, Jedec, 6.8 x 6.10 x 2.30mm Body, 3 Lead, 2.28mm Pitch, Surface Mount; Supplier 1: Digi-Key; Supplier Part Number 1: LP38691DT-3.3-ND; Supplier 2: Farnell; Supplier Part Number 2: 1685713; RoHS: Y; PinCount: 3; Code_JEDEC: TO-252-AA; ComponentLink1Description: LP38691 Datasheet; ComponentLink1URL: http://www.national.com/ds/LP/LP38691.pdf; ComponentLink2Description: LP38691 Web Page; ComponentLink2URL: http://www.national.com/pf/LP/LP38691.html; ComponentLink3Description: TD03B Package Page; ComponentLink3URL: http://www.national.com/packaging/folders/td03b.html
footprint TD03B_N (D-PAK, 4-Leads, Body 6.1x6.6mm, Pitch 2.29mm, Lead Span 9.7mm, IPC Medium Density)
footprint TD03B_L (D-PAK, 4-Leads, Body 6.1x6.6mm, Pitch 2.29mm, Lead Span 9.7mm, IPC High Density)
footprint TD03B_M (D-PAK, 4-Leads, Body 6.1x6.6mm, Pitch 2.29mm, Lead Span 9.7mm, IPC Low Density)
pins: 1 OUT (power), 3 IN (power), 4 GND (power)